# Altium footprint library Components.PcbLib: 5 footprints
Each footprint in its own frame and in the unit in brackets; x right, y up, seen from the top. Pads: shape width x height; smd on the part's side, far side on the other; paste and mask are expansions set on the pad; w line width, h text height; cw(c..) or ccw(c..) is an arc to the next point about the centre after c.
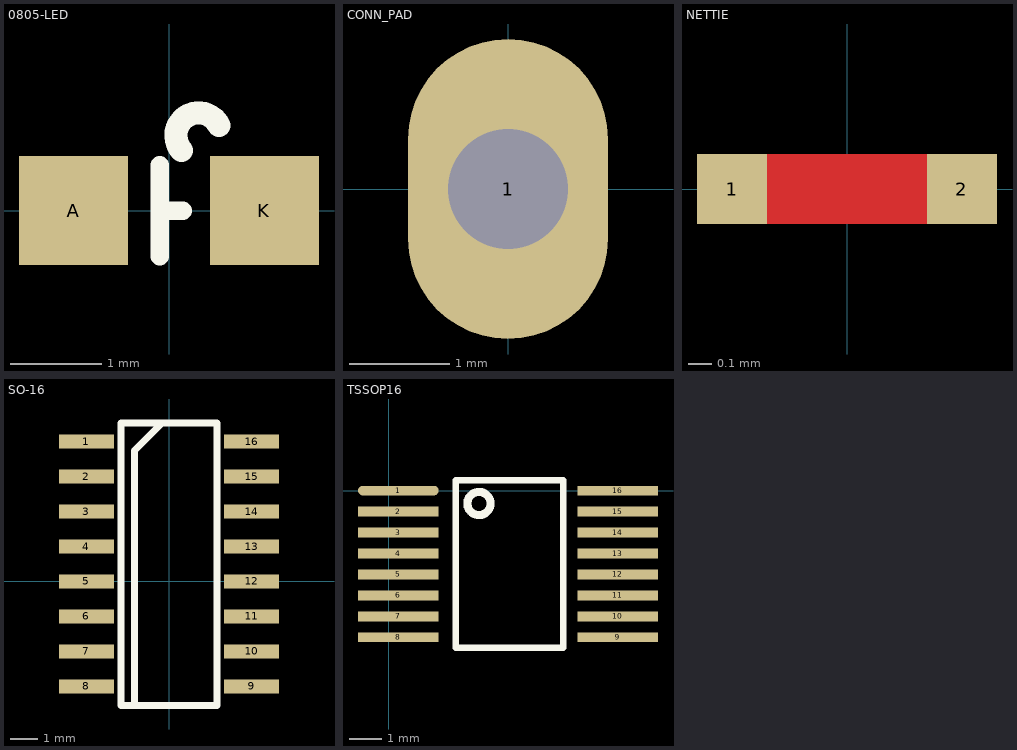
[diagram p0: the footprints below, top view; thin cyan lines are the x and y axes]

## 0805-LED [mm]
pads (2):
  rect 1.2x1.2 smd: A(-1.05,0) K(1.05,0)
Top Overlay:
  lines w0.203: -0.1,-0.5 -0.1,0.5 ; -0.05,0 0.15,0
  lines w0.254: 0.137,0.66 cw(c0.325,0.825) 0.549,0.937

## CONN_PAD [mm]
pads (1):
  oval 2x3 hole 1.2 unplated: 1(0,0)

## NETTIE [mil]
pads (2):
  rect 12x12 smd: 1(-19.68,0) 2(19.68,0)
Top Layer:
  rectangle: -19.68,-6 19.68,6

## SO-16 [mm]
pads (16):
  rect 2x0.5 smd: 1(-3,5.08) 2(-3,3.81) 3(-3,2.54) 4(-3,1.27) 5(-3,0) 6(-3,-1.27) 7(-3,-2.54) 8(-3,-3.81) 9(3,-3.81) 10(3,-2.54) 11(3,-1.27) 12(3,0) 13(3,1.27) 14(3,2.54) 15(3,3.81) 16(3,5.08)
Top Overlay:
  lines w0.254: -1.25,-4.5 -1.25,4.75 -0.25,5.75 ; -1.75,-4.5 -1.75,5.75 1.75,5.75 1.75,-4.5 -1.75,-4.5

## TSSOP16 [mm]
pads (16):
  oval 2.5x0.3 smd: 1(0.3,0)
  rect 2.5x0.3 smd: 2(0.3,-0.65) 3(0.3,-1.3) 4(0.3,-1.95) 5(0.3,-2.6) 6(0.3,-3.25) 7(0.3,-3.9) 8(0.3,-4.55) 9(7.1,-4.55) 10(7.1,-3.9) 11(7.1,-3.25) 12(7.1,-2.6) 13(7.1,-1.95) 14(7.1,-1.3) 15(7.1,-0.65) 16(7.1,0)
Top Overlay:
  circle w0.254: c2.8,-0.4 r0.361
  lines w0.2: 2.085,-4.875 2.085,0.325 5.415,0.325 5.415,-4.875 2.085,-4.875